# Altium schematic symbol library reg_switching_inverting.SchLib: 4 symbols
Pins are listed as number, name and electrical type; pins without a type are passive.

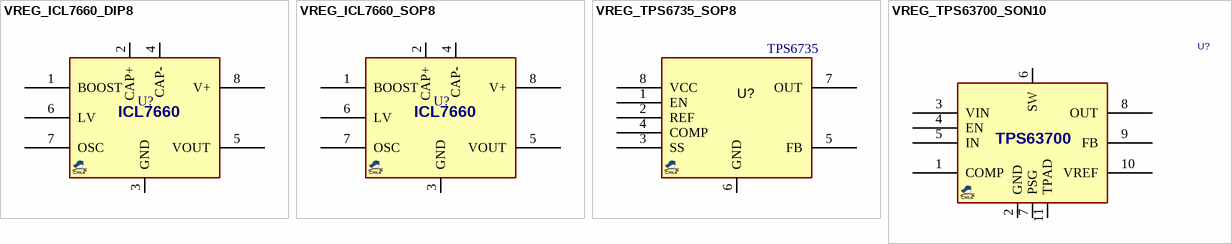
[diagram p0: symbols VREG_ICL7660_DIP8 to VREG_TPS63700_SON10]

## VREG_ICL7660_DIP8
designator U?, comment ICL7660  (value not drawn)
Voltage Converter +5V to ±5V Supplies; PARAM2: 1.5~12VIN; MANF_P#: ICL7660ACPAZ; MANF: INTERSIL; PARAM: 0.04A, 0~70oC; VALUE: ICL7660
footprint DIP_8 (DIP, pitch 2.54mm, 300mil Width)
pins: 1 BOOST, 2 CAP+, 3 GND (power), 4 CAP-, 5 VOUT, 6 LV, 7 OSC, 8 V+

## VREG_ICL7660_SOP8
designator U?, comment ICL7660  (value not drawn)
Voltage Converter +5V to ±5V Supplies; PARAM2: 1.5~12VIN; MANF_P#: ICL7660AIBAZA; MANF: INTERSIL; PARAM: 0.04A. -40~85oC; PRICE: 1.8$; VALUE: ICL7660
footprint SO_8
pins: 1 BOOST, 2 CAP+, 3 GND (power), 4 CAP-, 5 VOUT, 6 LV, 7 OSC, 8 V+

## VREG_TPS6735_SOP8
designator U?, comment TPS6735
REG, Switching, Inverting, 0.2A, FIXED-5V, 160KHz, SOP-8; PARAM: 0.2A, -5V; MANF: Texas Instruments; PARAM2: 160KHz, 4~6.2VIN; MANF_P#: TPS6735ID; VALUE: TPS6735
footprint SO_8
pins: 1 EN, 2 REF, 3 SS, 4 COMP, 5 FB, 6 GND, 7 OUT, 8 VCC

## VREG_TPS63700_SON10
designator U?, comment TPS63700  (value not drawn)
REG, Switching, Inverting, 0.36A, ADJ, 1.4MHz, SON-10; MANF: TI; PARAM2: 1.4MHz, 2.5~5.5VIN; MANF_P#: TPS63700DRC; PRICE: 2.3$; DESC: REG, Switching, Inverting, 0.36A, ADJ, 1.4MHz, SON-10; PARAM: 0.36A, ADJ; VALUE: TPS63700
footprint SON50_10T_3X3 (DRC SON(TI), 10 TDFN (MAXIM), 3X3mm, Pitch: 0.5mm with thermal pad)
pins: 1 COMP, 2 GND, 3 VIN, 4 EN, 5 IN, 6 SW, 7 PSG, 8 OUT, 9 FB, 10 VREF, 11 TPAD